# Altium schematic symbol library USB-A-PCB.SCHLIB: 1 symbol
Pins are listed as number, name and electrical type; pins without a type are passive.

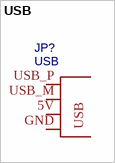
[diagram p0: symbol USB]

## USB
designator JP?
Contributor: SparkFun; spicePre: J; spiceSymbolName: USB
footprint USB-A-PCB
pins: 5V VBUS, GND, USB_M D-, USB_P D+